# Altium footprint library Ind_TDK_MLF1005GR47JT000_470nH.PcbLib: 1 footprints
Each footprint in its own frame and in the unit in brackets; x right, y up, seen from the top. Pads: shape width x height; smd on the part's side, far side on the other; paste and mask are expansions set on the pad; w line width, h text height; cw(c..) or ccw(c..) is an arc to the next point about the centre after c.
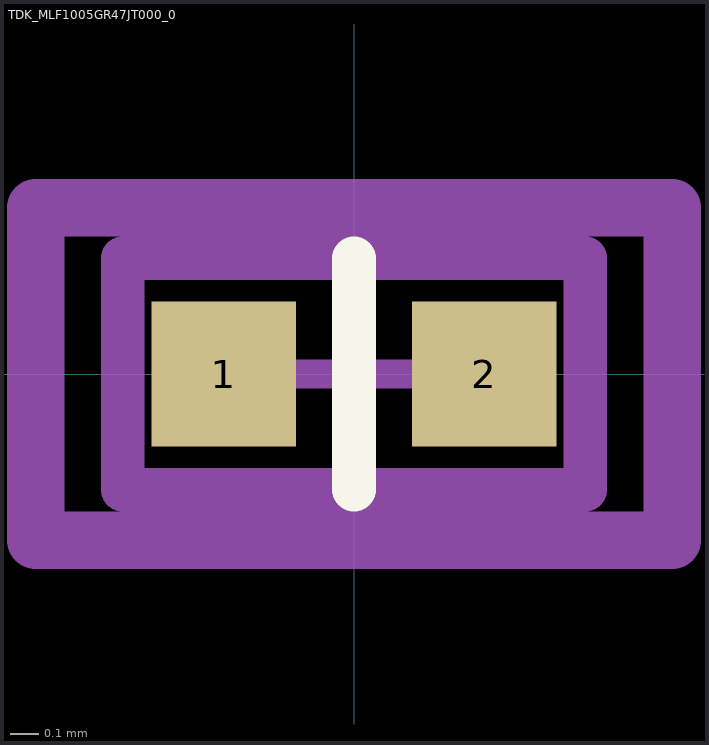
[diagram p0: the footprint, top view; thin cyan lines are the x and y axes]

## TDK_MLF1005GR47JT000_0 [mm]
pads (2):
  rect 0.5x0.5 smd paste+0 mask+0: 1(-0.45,0) 2(0.45,0)
Top Overlay:
  lines w0.152: 0,-0.4 0,0.4
Mechanical 10:
  lines w0.2: -1.1,-0.575 -1.1,0.575 1.1,0.575 1.1,-0.575 -1.1,-0.575
  text ".Designator" at 0,0 h1
Mechanical 12:
  lines w0.15: -0.8,-0.4 -0.8,0.4 0.8,0.4 0.8,-0.4 -0.8,-0.4
Mechanical 15:
  lines w0.1: -0.5,0 0.5,0 ; 0,-0.5 0,0.5
  lines w0.2: -1.1,-0.575 -1.1,0.575 1.1,0.575 1.1,-0.575 -1.1,-0.575
3D body "STEP-WE-MK-0402-rev1.stp": height 0.48, standoff -0.02, extent -0.5,-0.25 0.5,0.25